# Altium footprint library Smart_Pillbox_RF03.PcbLib: 22 footprints (part 1 of 2)
Each footprint in its own frame and in the unit in brackets; x right, y up, seen from the top. Pads: shape width x height; smd on the part's side, far side on the other; paste and mask are expansions set on the pad; w line width, h text height; cw(c..) or ccw(c..) is an arc to the next point about the centre after c.
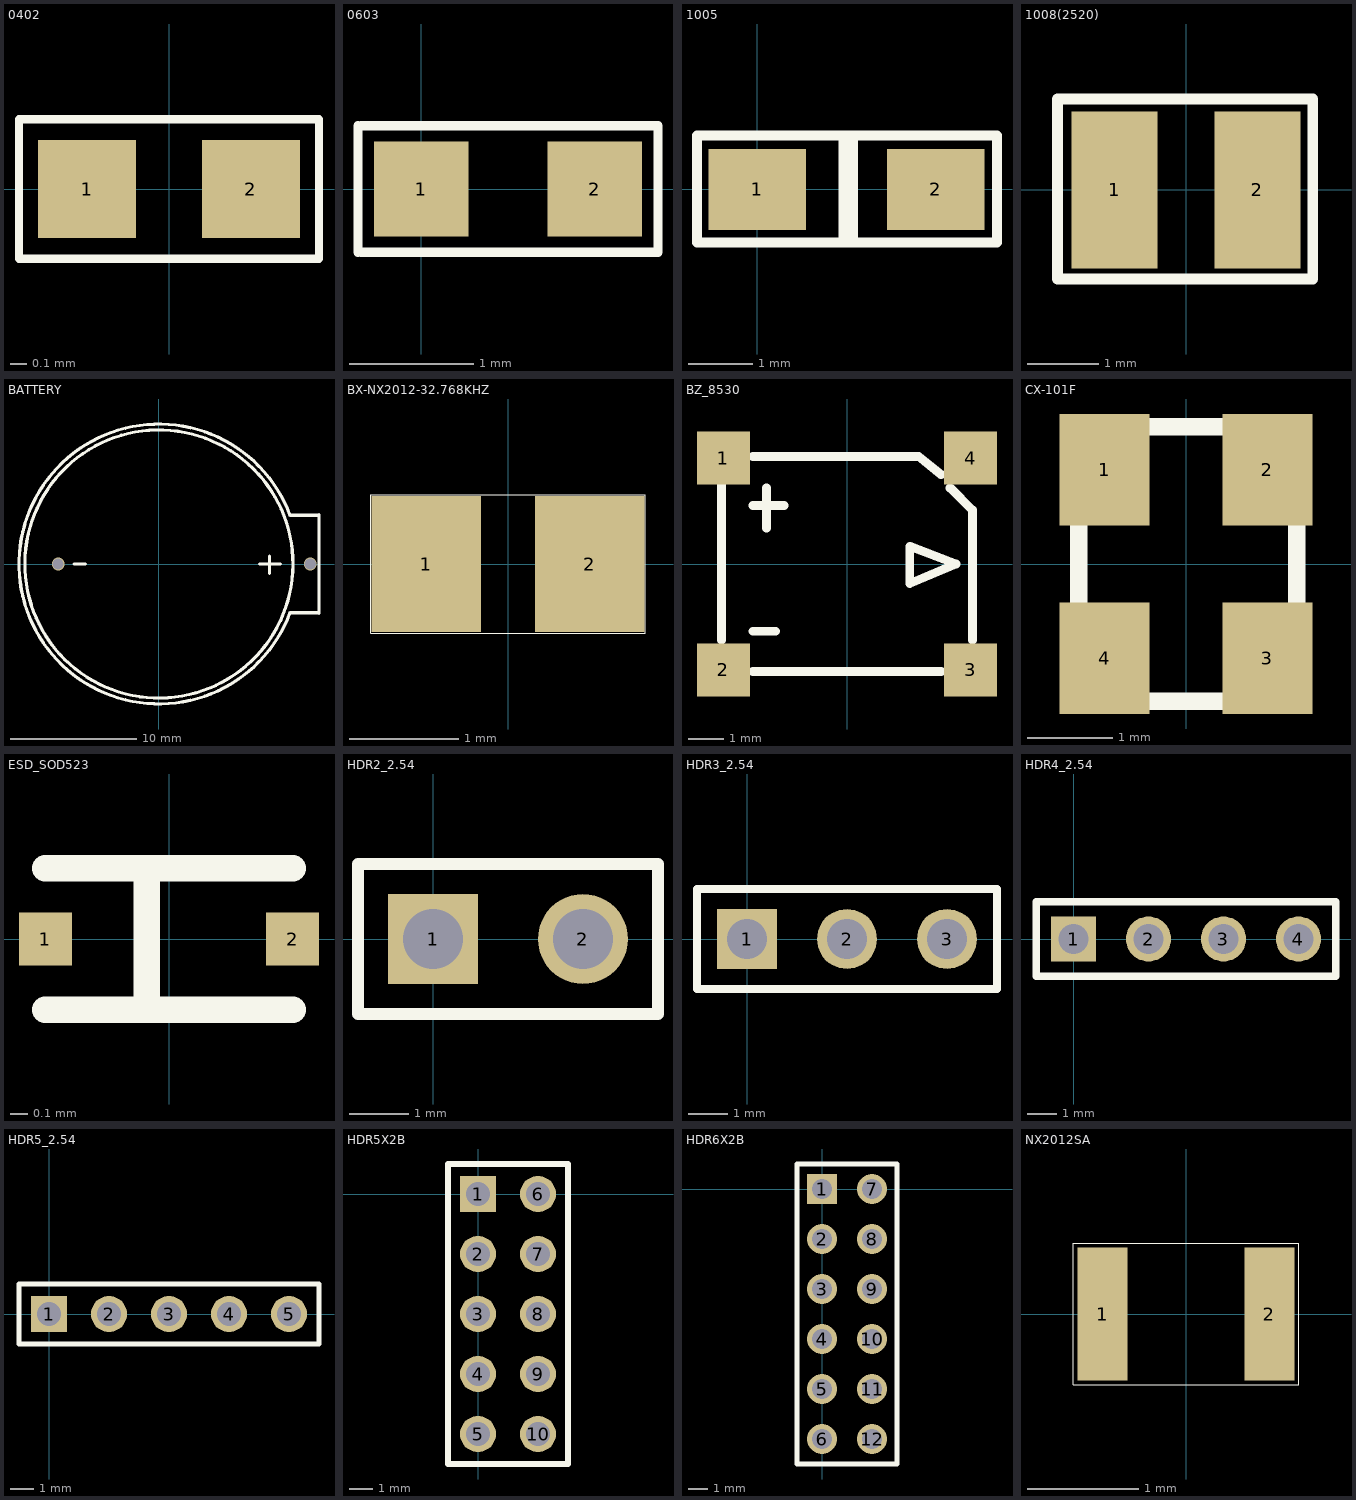
[diagram p0: the footprints below, top view; thin cyan lines are the x and y axes]

## 0402 [mil]
height 59.06
pads (2):
  rect 24x24 smd: 1(-20,0) 2(20,0)
Top Overlay:
  lines w2: -36.6,-17 36.6,-17 36.6,17 -36.6,17 -36.6,-17

## 0603 [mil]
height 59.06
pads (2):
  rect 30x30 smd: 1(0,0) 2(55,0)
Top Overlay:
  lines w3: -20,-20 -20,20 ; -19,-20 75,-20 75,20 -19,20

## 1005 [mil]
pads (2):
  rect 60x50 smd: 1(0,0) 2(110,0)
Top Overlay:
  lines w6: -37.1,-32.7 147.6,-32.7 147.6,33.2 -37.1,33.2 -37.1,-32.7
  lines w12: 55.9,-29.4 56,29

## 1008(2520) [mm]
pads (2):
  rect 1.2x2.2 smd: 1(-1,0) 2(1,0)
Top Overlay:
  lines w0.152: -1.8,-1.25 1.775,-1.25 1.775,1.275 -1.8,1.275 -1.8,-1.25

## BATTERY [mm]
via 12,0 diameter 1 hole 0.9
via -8,0 diameter 1 hole 0.9
Top Overlay:
  lines w0.254: -6.731,0 -5.842,0 ; 8.001,0 9.652,0 ; 8.763,-0.762 8.763,0.635 ; 10.415,-3.839 cw(c0,0) 10.415,3.839 ; 10.495,-3.869 12.558,-3.869 ; 10.495,3.869 12.695,3.869 ; 10.559,-1.272 cw(c0,0) 10.569,-1.189 ; 12.695,3.615 cw(c12.683,3.603) 12.7,3.603 ; 12.7,-3.9 12.7,3.9

## BX-NX2012-32.768KHZ [mm]
height 7.5
pads (2):
  rect 1x1.25 smd: 1(-0.749,0) 2(0.749,0)
Top Overlay:
  lines w0.001: -1.257,-0.635 1.257,-0.635 1.257,0.635 -1.257,0.635 -1.257,-0.635

## BZ_8530 [mm]
pads (4):
  rect 1.5x1.5 smd: 1(-3.5,3) 2(-3.5,-3) 3(3.5,-3) 4(3.5,3)
Top Overlay:
  lines w0.254: -3.556,-2.159 -3.556,2.286 ; -2.667,-3.048 2.667,-3.048 ; -2.667,-1.905 -2.032,-1.905 ; -2.667,1.651 -1.778,1.651 ; -2.667,3.048 2.03,3.048 2.667,2.54 ; -2.286,1.016 -2.286,2.159 ; 2.921,2.159 3.556,1.524 3.556,-2.159 ; 1.778,-0.55 3.09,0 1.778,0.5 1.778,-0.55

## CX-101F [mm]
pads (4):
  rect 1.05x1.3 smd: 1(-0.95,1.1) 2(0.95,1.1) 3(0.95,-1.1) 4(-0.95,-1.1)
Top Overlay:
  lines w0.203: -1.25,-1.6 1.29,-1.6 1.29,1.6 -0.577,1.6 -1.25,0.927 -1.25,-1.6

## ESD_SOD523 [mm]
pads (2):
  rect 0.3x0.3 smd: 1(-0.7,0) 2(0.7,0)
Top Overlay:
  lines w0.15: -0.7,-0.4 0.7,-0.4 ; -0.7,0.4 0.7,0.4 ; -0.127,-0.4 -0.127,0.4

## HDR2_2.54 [mil]
pads (2):
  rect 60x60 hole 40: 1(0,0)
  round 60 hole 40: 2(100,0)
Top Overlay:
  lines w8: -50,-50 -50,50 150,50 150,-50 -50,-50

## HDR3_2.54 [mil]
height 59.06
pads (3):
  rect 60x60 hole 40: 1(0,0)
  round 60 hole 40: 2(100,0) 3(200,0)
Top Overlay:
  lines w8: -50,-50 -50,50 250,50 250,-50 -50,-50

## HDR4_2.54 [mil]
pads (4):
  rect 60x60 hole 40: 1(0,0)
  round 60 hole 40: 2(100,0) 3(200,0) 4(300,0)
Top Overlay:
  lines w10: -50,-50 350,-50 350,50 -50,50 -50,-50

## HDR5_2.54 [mil]
pads (5):
  rect 60x60 hole 40: 1(0,0)
  round 60 hole 40: 2(100,0) 3(200,0) 4(300,0) 5(400,0)
Top Overlay:
  lines w8: -50,-50 450,-50 450,50 -50,50 -50,-50

## HDR5X2B [mil]
height 59.06
pads (10):
  rect 60x60 hole 40: 1(0,0)
  round 60 hole 40: 2(0,-100) 3(0,-200) 4(0,-300) 5(0,-400) 6(100,0) 7(100,-100) 8(100,-200) 9(100,-300) 10(100,-400)
Top Overlay:
  lines w10: -50,-450 -50,50 150,50 150,-450 -50,-450

## HDR6X2B [mil]
pads (12):
  rect 60x60 hole 40: 1(0,0)
  round 60 hole 40: 2(0,-100) 3(0,-200) 4(0,-300) 5(0,-400) 6(0,-500) 7(100,0) 8(100,-100) 9(100,-200) 10(100,-300) 11(100,-400) 12(100,-500)
Top Overlay:
  lines w10: -50,-550 150,-550 150,50 -50,50 -50,-550

## NX2012SA [mm]
pads (2):
  rect 0.45x1.2 smd: 1(-0.75,0) 2(0.75,0)
Top Overlay:
  lines w0.01: -1.016,-0.635 1.016,-0.635 1.016,0.635 -1.016,0.635 -1.016,-0.635